# EAGLE library part CONN_010 (library Honghe_Qi_ME433_HW2_Library)
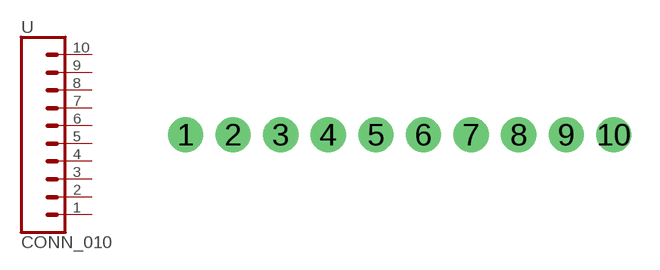
[diagram p2: symbol with the pads of CONN_010; footprint CONN_010]

Designator prefix -

## CONN_010  [CONN_010]
1  1  pas
2  2  pas
3  3  pas
4  4  pas
5  5  pas
6  6  pas
7  7  pas
8  8  pas
9  9  pas
10  10  pas

## Footprint CONN_010 (pad centres in mm)
drill 1.016 pad 1.88: 1 -10.16,0; 2 -7.62,0; 3 -5.08,0; 4 -2.54,0; 5 0,0; 6 2.54,0; 7 5.08,0; 8 7.62,0; 9 10.16,0; 10 12.7,0